# EAGLE library part MA04-2 (library NIPCB)
PIN HEADER
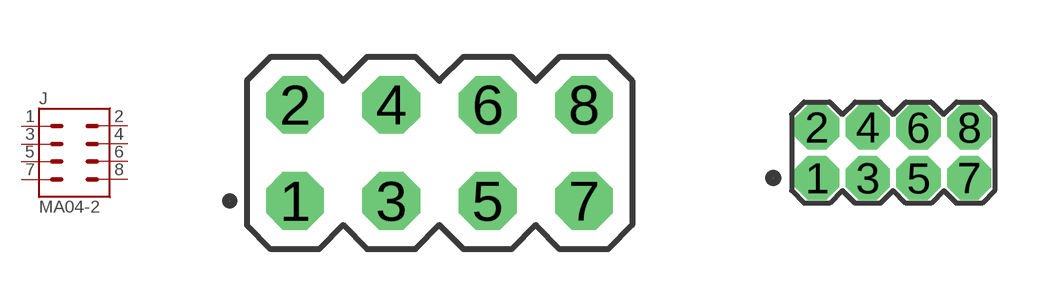
[diagram p14: symbol with the pads of MA04-2_TH_2.54MM; footprints MA04-2_TH_2.54MM, MA04-2_TH_1.27MM]

Designator prefix J

## MA04-2_TH_2.54MM  [MA04-2_TH_2.54MM]
1  1  pas
2  2  pas
3  3  pas
4  4  pas
5  5  pas
6  6  pas
7  7  pas
8  8  pas

## MA04-2_TH_1.27MM  [MA04-2_TH_1.27MM]
Pads as for MA04-2_TH_2.54MM

## MA04-2_SMD_1.27MM  [MA04-2_SMD_1.27MM]
Pads as for MA04-2_TH_2.54MM

## MA04-2_TH_SHR_2.54MM  [MA04-2_TH_SHR_2.54MM]
Pads as for MA04-2_TH_2.54MM

## Footprint MA04-2_TH_2.54MM (pad centres in mm)
PIN HEADER
drill 1.016 octagon: 1 -3.81,-1.27; 2 -3.81,1.27; 3 -1.27,-1.27; 4 -1.27,1.27; 5 1.27,-1.27; 6 1.27,1.27; 7 3.81,-1.27; 8 3.81,1.27

## Footprint MA04-2_TH_1.27MM (pad centres in mm)
PIN HEADER
drill 0.6 octagon: 1 -1.905,-0.635; 2 -1.905,0.635; 3 -0.635,-0.635; 4 -0.635,0.635; 5 0.635,-0.635; 6 0.635,0.635; 7 1.905,-0.635; 8 1.905,0.635

## Footprint MA04-2_SMD_1.27MM (pad centres in mm)
smd 0.76 x 2.4: 1 -1.905,-1.95; 2 -1.905,1.95; 3 -0.635,-1.95; 4 -0.635,1.95; 5 0.635,-1.95; 6 0.635,1.95; 7 1.905,-1.95; 8 1.905,1.95

## Footprint MA04-2_TH_SHR_2.54MM (pad centres in mm)
PIN HEADER
drill 1.016 octagon: 1 -3.81,-1.27; 2 -3.81,1.27; 3 -1.27,-1.27; 4 -1.27,1.27; 5 1.27,-1.27; 6 1.27,1.27; 7 3.81,-1.27; 8 3.81,1.27